# Altium integrated library Analog Devices Data Converters Analog-to-Digital Converters.IntLib: 2400 symbols (part 76 of 338)
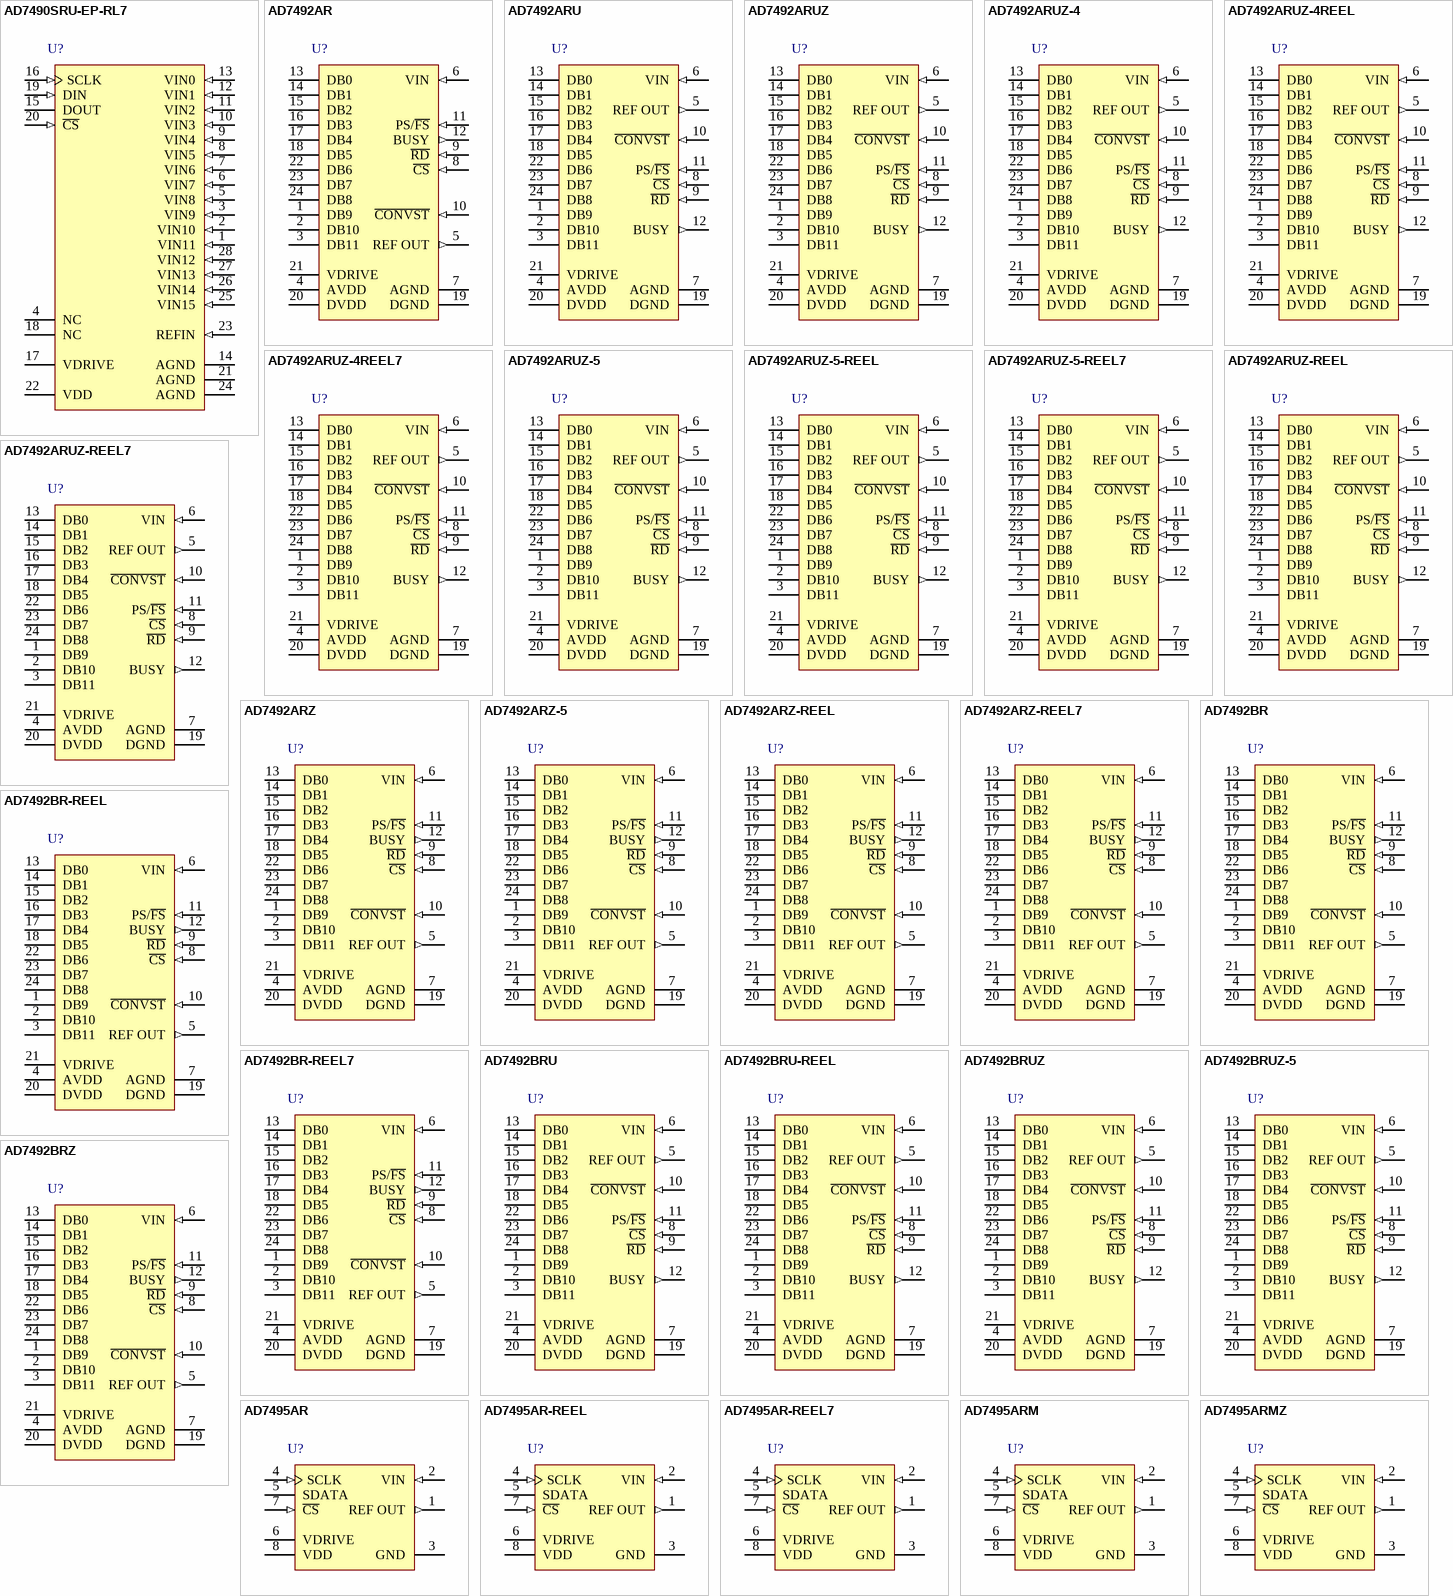
[diagram p198: symbols AD7490SRU-EP-RL7 to AD7495ARMZ]

## AD7492ARUZ-5-REEL
designator U?
Single 12-Bit Analog-to-Digital Converter with Parallel Interface and Internal REF and CLK, 16 mW, 1.25MSPS, -40 to +85 degC, RU-24, Pb-Free, Reel; Part Number: AD7492-5; Manufacturer: Analog Devices; Resolution (Bits): 12; Channels: 1; Throughput Rate (SPS): 1.25M; Interface: Par; DatasheetVersion: Rev.A; PackageVersion: 2002; PackageReference: RU-24; PackageDescription: 24-Lead Thin Shrink Small Outline Package [TSSOP]; RoHS: Y; Packing: Reel; Mounting Technology: Surface Mount; Code_JEDEC: MO-153-AD; ComponentLink1Description: Manufacturer URL; ComponentLink1URL: http://www.analog.com/en/index.html; ComponentLink2Description: Datasheet; ComponentLink2URL: http://www.analog.com/static/imported-files/data_sheets/AD7492.pdf; ComponentLink3Description: Package Specification; ComponentLink3URL: http://www.analog.com/static/imported-files/packages/380523655245964505593671154107510036154RU24.pdf; ComponentLink4Description: Product URL; ComponentLink4URL: http://www.analog.com/en/analog-to-digital-converters/ad-converters/ad7492/products/product.html
footprint RU-24_N (TSOP, 24-Leads, Body 7.8x4.4mm, Pitch 0.65mm, IPC Medium Density)
footprint RU-24_L (TSOP, 24-Leads, Body 7.8x4.4mm, Pitch 0.65mm, IPC High Density)
footprint RU-24_M (TSOP, 24-Leads, Body 7.8x4.4mm, Pitch 0.65mm, IPC Low Density)
pins: 1 DB9 (hiz) "Data Bit 9. Parallel digital outputs that provide the conversion result for the part. These are three-state outputs that are controlled by C\S\ and R\D\. The output high voltage level for these outputs is determined by the (See Datasheet)", 2 DB10 (hiz) "Data Bit 10. Parallel digital outputs that provide the conversion result for the part. These are three-state outputs that are controlled by C\S\ and R\D\. The output high voltage level for these outputs is determined by the (See Datasheet)", 3 DB11 (hiz) "Data Bit 11. Parallel digital outputs that provide the conversion result for the part. These are three-state outputs that are controlled by C\S\ and R\D\. The output high voltage level for these outputs is determined by the (See Datasheet)", 4 AVDD (power) "Analog Supply Voltage, 2.7 V to 5.25 V. This is the only supply voltage for all analog circuitry on the AD7492. The AVDD and DVDD voltages should ideally be at the same potential and must not be more than 0.3 V apart, even (See Datasheet)", 5 REF OUT (out) "Reference Out. The output voltage from this pin is 2.5 V +/- 1%.", 6 VIN (in) "Analog Input. Single-ended analog input channel. The input range is 0 V to REFIN. The analog input presents a high dc input impedance.", 7 AGND (power) "Analog Ground. Ground reference point for all analog circuitry on the AD7492. All analog input signals should be referred to this AGND voltage. The AGND and DGND voltages should ideally be at the same potential and must not (See Datasheet)", 8 ~{CS} (in) "Chip Select. Active low logic input used in conjunction with R\D\ to access the conversion result. The conversion result is placed on the data bus following the falling edge of both C\S\ and R\D\. C\S\ and R\D\ are both (See Datasheet)", 9 ~{RD} (in) "Read Input. Logic input used in conjunction with C\S\ to access the conversion result. The conversion result is placed on the data bus following the falling edge of both C\S\ and R\D\. C\S\ and R\D\ are both connected to the (See Datasheet)", 10 ~{CONVST} (in) "Conversion Start Input. Logic input used to initiate conversion. The input track/hold amplifier goes from track mode to hold mode on the falling edge of C\O\N\V\S\T\ and the conversion process is initiated at this point. The (See Datasheet)", 11 PS/~{FS} (in) "Partial Sleep/Full Sleep Mode. This pin determines the type of sleep mode the part enters if the C\O\N\V\S\T\ pin is kept low for the duration of the conversion and is still low at the end of conversion. In partial sleep (See Datasheet)", 12 BUSY (out) "BUSY Output. Logic output indicating the status of the conversion process. The BUSY signal goes high after the falling edge of C\O\N\V\S\T\ and stays high for the duration of the conversion. Once the conversion is complete (See Datasheet)", 13 DB0 (hiz) "Data Bit 0. Parallel digital outputs that provide the conversion result for the part. These are three-state outputs that are controlled by C\S\ and R\D\. The output high voltage level for these outputs is determined by the (See Datasheet)", 14 DB1 (hiz) "Data Bit 1. Parallel digital outputs that provide the conversion result for the part. These are three-state outputs that are controlled by C\S\ and R\D\. The output high voltage level for these outputs is determined by the (See Datasheet)", 15 DB2 (hiz) "Data Bit 2. Parallel digital outputs that provide the conversion result for the part. These are three-state outputs that are controlled by C\S\ and R\D\. The output high voltage level for these outputs is determined by the (See Datasheet)", 16 DB3 (hiz) "Data Bit 3. Parallel digital outputs that provide the conversion result for the part. These are three-state outputs that are controlled by C\S\ and R\D\. The output high voltage level for these outputs is determined by the (See Datasheet)", 17 DB4 (hiz) "Data Bit 4. Parallel digital outputs that provide the conversion result for the part. These are three-state outputs that are controlled by C\S\ and R\D\. The output high voltage level for these outputs is determined by the (See Datasheet)", 18 DB5 (hiz) "Data Bit 5. Parallel digital outputs that provide the conversion result for the part. These are three-state outputs that are controlled by C\S\ and R\D\. The output high voltage level for these outputs is determined by the (See Datasheet)", 19 DGND (power) "Digital Ground. This is the ground reference point for all digital circuitry on the AD7492. The DGND and AGND voltages should ideally be at the same potential and must not be more than 0.3 V apart, even on a transient basis.", 20 DVDD (power) "Digital Supply Voltage, 2.7 V to 5.25 V. This is the supply voltage for all digital circuitry on the AD7492 apart from the output drivers and input circuitry. The DVDD and AVDD voltages should ideally be at the same (See Datasheet)", 21 VDRIVE (power) "Supply Voltage for the Output Drivers and Digital Input Circuitry, 2.7 V to 5.25 V. This voltage determines the output high voltage for the data output pins and the trigger levels for the digital inputs. It allows the (See Datasheet)", 22 DB6 (hiz) "Data Bit 6. Parallel digital outputs that provide the conversion result for the part. These are three-state outputs that are controlled by C\S\ and R\D\. The output high voltage level for these outputs is determined by the (See Datasheet)", 23 DB7 (hiz) "Data Bit 7. Parallel digital outputs that provide the conversion result for the part. These are three-state outputs that are controlled by C\S\ and R\D\. The output high voltage level for these outputs is determined by the (See Datasheet)", 24 DB8 (hiz) "Data Bit 8. Parallel digital outputs that provide the conversion result for the part. These are three-state outputs that are controlled by C\S\ and R\D\. The output high voltage level for these outputs is determined by the (See Datasheet)"

## AD7492ARUZ-5-REEL7
designator U?
Single 12-Bit Analog-to-Digital Converter with Parallel Interface and Internal REF and CLK, 16 mW, 1.25MSPS, -40 to +85 degC, RU-24, Pb-Free, Reel; Part Number: AD7492-5; Manufacturer: Analog Devices; Resolution (Bits): 12; Channels: 1; Throughput Rate (SPS): 1.25M; Interface: Par; DatasheetVersion: Rev.A; PackageVersion: 2002; PackageReference: RU-24; PackageDescription: 24-Lead Thin Shrink Small Outline Package [TSSOP]; RoHS: Y; Packing: Reel; Mounting Technology: Surface Mount; Code_JEDEC: MO-153-AD; ComponentLink1Description: Manufacturer URL; ComponentLink1URL: http://www.analog.com/en/index.html; ComponentLink2Description: Datasheet; ComponentLink2URL: http://www.analog.com/static/imported-files/data_sheets/AD7492.pdf; ComponentLink3Description: Package Specification; ComponentLink3URL: http://www.analog.com/static/imported-files/packages/380523655245964505593671154107510036154RU24.pdf; ComponentLink4Description: Product URL; ComponentLink4URL: http://www.analog.com/en/analog-to-digital-converters/ad-converters/ad7492/products/product.html
footprint RU-24_N (TSOP, 24-Leads, Body 7.8x4.4mm, Pitch 0.65mm, IPC Medium Density)
footprint RU-24_L (TSOP, 24-Leads, Body 7.8x4.4mm, Pitch 0.65mm, IPC High Density)
footprint RU-24_M (TSOP, 24-Leads, Body 7.8x4.4mm, Pitch 0.65mm, IPC Low Density)
pins: 1 DB9 (hiz) "Data Bit 9. Parallel digital outputs that provide the conversion result for the part. These are three-state outputs that are controlled by C\S\ and R\D\. The output high voltage level for these outputs is determined by the (See Datasheet)", 2 DB10 (hiz) "Data Bit 10. Parallel digital outputs that provide the conversion result for the part. These are three-state outputs that are controlled by C\S\ and R\D\. The output high voltage level for these outputs is determined by the (See Datasheet)", 3 DB11 (hiz) "Data Bit 11. Parallel digital outputs that provide the conversion result for the part. These are three-state outputs that are controlled by C\S\ and R\D\. The output high voltage level for these outputs is determined by the (See Datasheet)", 4 AVDD (power) "Analog Supply Voltage, 2.7 V to 5.25 V. This is the only supply voltage for all analog circuitry on the AD7492. The AVDD and DVDD voltages should ideally be at the same potential and must not be more than 0.3 V apart, even (See Datasheet)", 5 REF OUT (out) "Reference Out. The output voltage from this pin is 2.5 V +/- 1%.", 6 VIN (in) "Analog Input. Single-ended analog input channel. The input range is 0 V to REFIN. The analog input presents a high dc input impedance.", 7 AGND (power) "Analog Ground. Ground reference point for all analog circuitry on the AD7492. All analog input signals should be referred to this AGND voltage. The AGND and DGND voltages should ideally be at the same potential and must not (See Datasheet)", 8 ~{CS} (in) "Chip Select. Active low logic input used in conjunction with R\D\ to access the conversion result. The conversion result is placed on the data bus following the falling edge of both C\S\ and R\D\. C\S\ and R\D\ are both (See Datasheet)", 9 ~{RD} (in) "Read Input. Logic input used in conjunction with C\S\ to access the conversion result. The conversion result is placed on the data bus following the falling edge of both C\S\ and R\D\. C\S\ and R\D\ are both connected to the (See Datasheet)", 10 ~{CONVST} (in) "Conversion Start Input. Logic input used to initiate conversion. The input track/hold amplifier goes from track mode to hold mode on the falling edge of C\O\N\V\S\T\ and the conversion process is initiated at this point. The (See Datasheet)", 11 PS/~{FS} (in) "Partial Sleep/Full Sleep Mode. This pin determines the type of sleep mode the part enters if the C\O\N\V\S\T\ pin is kept low for the duration of the conversion and is still low at the end of conversion. In partial sleep (See Datasheet)", 12 BUSY (out) "BUSY Output. Logic output indicating the status of the conversion process. The BUSY signal goes high after the falling edge of C\O\N\V\S\T\ and stays high for the duration of the conversion. Once the conversion is complete (See Datasheet)", 13 DB0 (hiz) "Data Bit 0. Parallel digital outputs that provide the conversion result for the part. These are three-state outputs that are controlled by C\S\ and R\D\. The output high voltage level for these outputs is determined by the (See Datasheet)", 14 DB1 (hiz) "Data Bit 1. Parallel digital outputs that provide the conversion result for the part. These are three-state outputs that are controlled by C\S\ and R\D\. The output high voltage level for these outputs is determined by the (See Datasheet)", 15 DB2 (hiz) "Data Bit 2. Parallel digital outputs that provide the conversion result for the part. These are three-state outputs that are controlled by C\S\ and R\D\. The output high voltage level for these outputs is determined by the (See Datasheet)", 16 DB3 (hiz) "Data Bit 3. Parallel digital outputs that provide the conversion result for the part. These are three-state outputs that are controlled by C\S\ and R\D\. The output high voltage level for these outputs is determined by the (See Datasheet)", 17 DB4 (hiz) "Data Bit 4. Parallel digital outputs that provide the conversion result for the part. These are three-state outputs that are controlled by C\S\ and R\D\. The output high voltage level for these outputs is determined by the (See Datasheet)", 18 DB5 (hiz) "Data Bit 5. Parallel digital outputs that provide the conversion result for the part. These are three-state outputs that are controlled by C\S\ and R\D\. The output high voltage level for these outputs is determined by the (See Datasheet)", 19 DGND (power) "Digital Ground. This is the ground reference point for all digital circuitry on the AD7492. The DGND and AGND voltages should ideally be at the same potential and must not be more than 0.3 V apart, even on a transient basis.", 20 DVDD (power) "Digital Supply Voltage, 2.7 V to 5.25 V. This is the supply voltage for all digital circuitry on the AD7492 apart from the output drivers and input circuitry. The DVDD and AVDD voltages should ideally be at the same (See Datasheet)", 21 VDRIVE (power) "Supply Voltage for the Output Drivers and Digital Input Circuitry, 2.7 V to 5.25 V. This voltage determines the output high voltage for the data output pins and the trigger levels for the digital inputs. It allows the (See Datasheet)", 22 DB6 (hiz) "Data Bit 6. Parallel digital outputs that provide the conversion result for the part. These are three-state outputs that are controlled by C\S\ and R\D\. The output high voltage level for these outputs is determined by the (See Datasheet)", 23 DB7 (hiz) "Data Bit 7. Parallel digital outputs that provide the conversion result for the part. These are three-state outputs that are controlled by C\S\ and R\D\. The output high voltage level for these outputs is determined by the (See Datasheet)", 24 DB8 (hiz) "Data Bit 8. Parallel digital outputs that provide the conversion result for the part. These are three-state outputs that are controlled by C\S\ and R\D\. The output high voltage level for these outputs is determined by the (See Datasheet)"

## AD7492ARUZ-REEL
designator U?
Single 12-Bit Analog-to-Digital Converter with Parallel Interface and Internal REF and CLK, 16 mW, 1MSPS, -40 to +85 degC, RU-24, Pb-Free, Reel; Part Number: AD7492; Manufacturer: Analog Devices; Resolution (Bits): 12; Channels: 1; Throughput Rate (SPS): 1M; Interface: Par; DatasheetVersion: Rev.A; PackageVersion: 2002; PackageReference: RU-24; PackageDescription: 24-Lead Thin Shrink Small Outline Package [TSSOP]; RoHS: Y; Packing: Reel; Mounting Technology: Surface Mount; Code_JEDEC: MO-153-AD; ComponentLink1Description: Manufacturer URL; ComponentLink1URL: http://www.analog.com/en/index.html; ComponentLink2Description: Datasheet; ComponentLink2URL: http://www.analog.com/static/imported-files/data_sheets/AD7492.pdf; ComponentLink3Description: Package Specification; ComponentLink3URL: http://www.analog.com/static/imported-files/packages/380523655245964505593671154107510036154RU24.pdf; ComponentLink4Description: Product URL; ComponentLink4URL: http://www.analog.com/en/analog-to-digital-converters/ad-converters/ad7492/products/product.html
footprint RU-24_N (TSOP, 24-Leads, Body 7.8x4.4mm, Pitch 0.65mm, IPC Medium Density)
footprint RU-24_L (TSOP, 24-Leads, Body 7.8x4.4mm, Pitch 0.65mm, IPC High Density)
footprint RU-24_M (TSOP, 24-Leads, Body 7.8x4.4mm, Pitch 0.65mm, IPC Low Density)
pins: 1 DB9 (hiz) "Data Bit 9. Parallel digital outputs that provide the conversion result for the part. These are three-state outputs that are controlled by C\S\ and R\D\. The output high voltage level for these outputs is determined by the (See Datasheet)", 2 DB10 (hiz) "Data Bit 10. Parallel digital outputs that provide the conversion result for the part. These are three-state outputs that are controlled by C\S\ and R\D\. The output high voltage level for these outputs is determined by the (See Datasheet)", 3 DB11 (hiz) "Data Bit 11. Parallel digital outputs that provide the conversion result for the part. These are three-state outputs that are controlled by C\S\ and R\D\. The output high voltage level for these outputs is determined by the (See Datasheet)", 4 AVDD (power) "Analog Supply Voltage, 2.7 V to 5.25 V. This is the only supply voltage for all analog circuitry on the AD7492. The AVDD and DVDD voltages should ideally be at the same potential and must not be more than 0.3 V apart, even (See Datasheet)", 5 REF OUT (out) "Reference Out. The output voltage from this pin is 2.5 V +/- 1%.", 6 VIN (in) "Analog Input. Single-ended analog input channel. The input range is 0 V to REFIN. The analog input presents a high dc input impedance.", 7 AGND (power) "Analog Ground. Ground reference point for all analog circuitry on the AD7492. All analog input signals should be referred to this AGND voltage. The AGND and DGND voltages should ideally be at the same potential and must not (See Datasheet)", 8 ~{CS} (in) "Chip Select. Active low logic input used in conjunction with R\D\ to access the conversion result. The conversion result is placed on the data bus following the falling edge of both C\S\ and R\D\. C\S\ and R\D\ are both (See Datasheet)", 9 ~{RD} (in) "Read Input. Logic input used in conjunction with C\S\ to access the conversion result. The conversion result is placed on the data bus following the falling edge of both C\S\ and R\D\. C\S\ and R\D\ are both connected to the (See Datasheet)", 10 ~{CONVST} (in) "Conversion Start Input. Logic input used to initiate conversion. The input track/hold amplifier goes from track mode to hold mode on the falling edge of C\O\N\V\S\T\ and the conversion process is initiated at this point. The (See Datasheet)", 11 PS/~{FS} (in) "Partial Sleep/Full Sleep Mode. This pin determines the type of sleep mode the part enters if the C\O\N\V\S\T\ pin is kept low for the duration of the conversion and is still low at the end of conversion. In partial sleep (See Datasheet)", 12 BUSY (out) "BUSY Output. Logic output indicating the status of the conversion process. The BUSY signal goes high after the falling edge of C\O\N\V\S\T\ and stays high for the duration of the conversion. Once the conversion is complete (See Datasheet)", 13 DB0 (hiz) "Data Bit 0. Parallel digital outputs that provide the conversion result for the part. These are three-state outputs that are controlled by C\S\ and R\D\. The output high voltage level for these outputs is determined by the (See Datasheet)", 14 DB1 (hiz) "Data Bit 1. Parallel digital outputs that provide the conversion result for the part. These are three-state outputs that are controlled by C\S\ and R\D\. The output high voltage level for these outputs is determined by the (See Datasheet)", 15 DB2 (hiz) "Data Bit 2. Parallel digital outputs that provide the conversion result for the part. These are three-state outputs that are controlled by C\S\ and R\D\. The output high voltage level for these outputs is determined by the (See Datasheet)", 16 DB3 (hiz) "Data Bit 3. Parallel digital outputs that provide the conversion result for the part. These are three-state outputs that are controlled by C\S\ and R\D\. The output high voltage level for these outputs is determined by the (See Datasheet)", 17 DB4 (hiz) "Data Bit 4. Parallel digital outputs that provide the conversion result for the part. These are three-state outputs that are controlled by C\S\ and R\D\. The output high voltage level for these outputs is determined by the (See Datasheet)", 18 DB5 (hiz) "Data Bit 5. Parallel digital outputs that provide the conversion result for the part. These are three-state outputs that are controlled by C\S\ and R\D\. The output high voltage level for these outputs is determined by the (See Datasheet)", 19 DGND (power) "Digital Ground. This is the ground reference point for all digital circuitry on the AD7492. The DGND and AGND voltages should ideally be at the same potential and must not be more than 0.3 V apart, even on a transient basis.", 20 DVDD (power) "Digital Supply Voltage, 2.7 V to 5.25 V. This is the supply voltage for all digital circuitry on the AD7492 apart from the output drivers and input circuitry. The DVDD and AVDD voltages should ideally be at the same (See Datasheet)", 21 VDRIVE (power) "Supply Voltage for the Output Drivers and Digital Input Circuitry, 2.7 V to 5.25 V. This voltage determines the output high voltage for the data output pins and the trigger levels for the digital inputs. It allows the (See Datasheet)", 22 DB6 (hiz) "Data Bit 6. Parallel digital outputs that provide the conversion result for the part. These are three-state outputs that are controlled by C\S\ and R\D\. The output high voltage level for these outputs is determined by the (See Datasheet)", 23 DB7 (hiz) "Data Bit 7. Parallel digital outputs that provide the conversion result for the part. These are three-state outputs that are controlled by C\S\ and R\D\. The output high voltage level for these outputs is determined by the (See Datasheet)", 24 DB8 (hiz) "Data Bit 8. Parallel digital outputs that provide the conversion result for the part. These are three-state outputs that are controlled by C\S\ and R\D\. The output high voltage level for these outputs is determined by the (See Datasheet)"

## AD7492ARUZ-REEL7
designator U?
Single 12-Bit Analog-to-Digital Converter with Parallel Interface and Internal REF and CLK, 16 mW, 1MSPS, -40 to +85 degC, RU-24, Pb-Free, Reel; Part Number: AD7492; Manufacturer: Analog Devices; Resolution (Bits): 12; Channels: 1; Throughput Rate (SPS): 1M; Interface: Par; DatasheetVersion: Rev.A; PackageVersion: 2002; PackageReference: RU-24; PackageDescription: 24-Lead Thin Shrink Small Outline Package [TSSOP]; RoHS: Y; Packing: Reel; Mounting Technology: Surface Mount; Code_JEDEC: MO-153-AD; ComponentLink1Description: Manufacturer URL; ComponentLink1URL: http://www.analog.com/en/index.html; ComponentLink2Description: Datasheet; ComponentLink2URL: http://www.analog.com/static/imported-files/data_sheets/AD7492.pdf; ComponentLink3Description: Package Specification; ComponentLink3URL: http://www.analog.com/static/imported-files/packages/380523655245964505593671154107510036154RU24.pdf; ComponentLink4Description: Product URL; ComponentLink4URL: http://www.analog.com/en/analog-to-digital-converters/ad-converters/ad7492/products/product.html
footprint RU-24_N (TSOP, 24-Leads, Body 7.8x4.4mm, Pitch 0.65mm, IPC Medium Density)
footprint RU-24_L (TSOP, 24-Leads, Body 7.8x4.4mm, Pitch 0.65mm, IPC High Density)
footprint RU-24_M (TSOP, 24-Leads, Body 7.8x4.4mm, Pitch 0.65mm, IPC Low Density)
pins: 1 DB9 (hiz) "Data Bit 9. Parallel digital outputs that provide the conversion result for the part. These are three-state outputs that are controlled by C\S\ and R\D\. The output high voltage level for these outputs is determined by the (See Datasheet)", 2 DB10 (hiz) "Data Bit 10. Parallel digital outputs that provide the conversion result for the part. These are three-state outputs that are controlled by C\S\ and R\D\. The output high voltage level for these outputs is determined by the (See Datasheet)", 3 DB11 (hiz) "Data Bit 11. Parallel digital outputs that provide the conversion result for the part. These are three-state outputs that are controlled by C\S\ and R\D\. The output high voltage level for these outputs is determined by the (See Datasheet)", 4 AVDD (power) "Analog Supply Voltage, 2.7 V to 5.25 V. This is the only supply voltage for all analog circuitry on the AD7492. The AVDD and DVDD voltages should ideally be at the same potential and must not be more than 0.3 V apart, even (See Datasheet)", 5 REF OUT (out) "Reference Out. The output voltage from this pin is 2.5 V +/- 1%.", 6 VIN (in) "Analog Input. Single-ended analog input channel. The input range is 0 V to REFIN. The analog input presents a high dc input impedance.", 7 AGND (power) "Analog Ground. Ground reference point for all analog circuitry on the AD7492. All analog input signals should be referred to this AGND voltage. The AGND and DGND voltages should ideally be at the same potential and must not (See Datasheet)", 8 ~{CS} (in) "Chip Select. Active low logic input used in conjunction with R\D\ to access the conversion result. The conversion result is placed on the data bus following the falling edge of both C\S\ and R\D\. C\S\ and R\D\ are both (See Datasheet)", 9 ~{RD} (in) "Read Input. Logic input used in conjunction with C\S\ to access the conversion result. The conversion result is placed on the data bus following the falling edge of both C\S\ and R\D\. C\S\ and R\D\ are both connected to the (See Datasheet)", 10 ~{CONVST} (in) "Conversion Start Input. Logic input used to initiate conversion. The input track/hold amplifier goes from track mode to hold mode on the falling edge of C\O\N\V\S\T\ and the conversion process is initiated at this point. The (See Datasheet)", 11 PS/~{FS} (in) "Partial Sleep/Full Sleep Mode. This pin determines the type of sleep mode the part enters if the C\O\N\V\S\T\ pin is kept low for the duration of the conversion and is still low at the end of conversion. In partial sleep (See Datasheet)", 12 BUSY (out) "BUSY Output. Logic output indicating the status of the conversion process. The BUSY signal goes high after the falling edge of C\O\N\V\S\T\ and stays high for the duration of the conversion. Once the conversion is complete (See Datasheet)", 13 DB0 (hiz) "Data Bit 0. Parallel digital outputs that provide the conversion result for the part. These are three-state outputs that are controlled by C\S\ and R\D\. The output high voltage level for these outputs is determined by the (See Datasheet)", 14 DB1 (hiz) "Data Bit 1. Parallel digital outputs that provide the conversion result for the part. These are three-state outputs that are controlled by C\S\ and R\D\. The output high voltage level for these outputs is determined by the (See Datasheet)", 15 DB2 (hiz) "Data Bit 2. Parallel digital outputs that provide the conversion result for the part. These are three-state outputs that are controlled by C\S\ and R\D\. The output high voltage level for these outputs is determined by the (See Datasheet)", 16 DB3 (hiz) "Data Bit 3. Parallel digital outputs that provide the conversion result for the part. These are three-state outputs that are controlled by C\S\ and R\D\. The output high voltage level for these outputs is determined by the (See Datasheet)", 17 DB4 (hiz) "Data Bit 4. Parallel digital outputs that provide the conversion result for the part. These are three-state outputs that are controlled by C\S\ and R\D\. The output high voltage level for these outputs is determined by the (See Datasheet)", 18 DB5 (hiz) "Data Bit 5. Parallel digital outputs that provide the conversion result for the part. These are three-state outputs that are controlled by C\S\ and R\D\. The output high voltage level for these outputs is determined by the (See Datasheet)", 19 DGND (power) "Digital Ground. This is the ground reference point for all digital circuitry on the AD7492. The DGND and AGND voltages should ideally be at the same potential and must not be more than 0.3 V apart, even on a transient basis.", 20 DVDD (power) "Digital Supply Voltage, 2.7 V to 5.25 V. This is the supply voltage for all digital circuitry on the AD7492 apart from the output drivers and input circuitry. The DVDD and AVDD voltages should ideally be at the same (See Datasheet)", 21 VDRIVE (power) "Supply Voltage for the Output Drivers and Digital Input Circuitry, 2.7 V to 5.25 V. This voltage determines the output high voltage for the data output pins and the trigger levels for the digital inputs. It allows the (See Datasheet)", 22 DB6 (hiz) "Data Bit 6. Parallel digital outputs that provide the conversion result for the part. These are three-state outputs that are controlled by C\S\ and R\D\. The output high voltage level for these outputs is determined by the (See Datasheet)", 23 DB7 (hiz) "Data Bit 7. Parallel digital outputs that provide the conversion result for the part. These are three-state outputs that are controlled by C\S\ and R\D\. The output high voltage level for these outputs is determined by the (See Datasheet)", 24 DB8 (hiz) "Data Bit 8. Parallel digital outputs that provide the conversion result for the part. These are three-state outputs that are controlled by C\S\ and R\D\. The output high voltage level for these outputs is determined by the (See Datasheet)"

## AD7492ARZ
designator U?
Single 12-Bit Analog-to-Digital Converter with Parallel Interface and Internal REF and CLK, 16 mW, 1MSPS, 0 to +70 degC, RW-24, Pb-Free, Tube; Part Number: AD7492; Manufacturer: Analog Devices; Resolution (Bits): 12; Channels: 1; Throughput Rate (SPS): 1M; Interface: Par; DatasheetVersion: Rev.A; PackageVersion: 060706-A; PackageReference: RW-24; PackageDescription: 24-Lead Standard Small Outline Package [SOIC_W]; RoHS: Y; Packing: Tube; Mounting Technology: Surface Mount; Code_JEDEC: MS-013-AD; ComponentLink1Description: Manufacturer URL; ComponentLink1URL: http://www.analog.com/en/index.html; ComponentLink2Description: Datasheet; ComponentLink2URL: http://www.analog.com/static/imported-files/data_sheets/AD7492.pdf; ComponentLink3Description: Package Specification; ComponentLink3URL: http://www.analog.com/static/imported-files/packages/33665150946139RW_24.pdf; ComponentLink4Description: Product URL; ComponentLink4URL: http://www.analog.com/en/analog-to-digital-converters/ad-converters/ad7492/products/product.html
footprint RW-24_N (SOIC, 24-Leads, Body 15.4x7.5mm, Pitch 1.27mm, IPC Medium Density)
footprint RW-24_L (SOIC, 24-Leads, Body 15.4x7.5mm, Pitch 1.27mm, IPC High Density)
footprint RW-24_M (SOIC, 24-Leads, Body 15.4x7.5mm, Pitch 1.27mm, IPC Low Density)
pins: 1 DB9 (hiz) "Data Bit 9. Parallel digital outputs that provide the conversion result for the part. These are three-state outputs that are controlled by C\S\ and R\D\. The output high voltage level for these outputs is determined by the (See Datasheet)", 2 DB10 (hiz) "Data Bit 10. Parallel digital outputs that provide the conversion result for the part. These are three-state outputs that are controlled by C\S\ and R\D\. The output high voltage level for these outputs is determined by the (See Datasheet)", 3 DB11 (hiz) "Data Bit 11. Parallel digital outputs that provide the conversion result for the part. These are three-state outputs that are controlled by C\S\ and R\D\. The output high voltage level for these outputs is determined by the (See Datasheet)", 4 AVDD (power) "Analog Supply Voltage, 2.7 V to 5.25 V. This is the only supply voltage for all analog circuitry on the AD7492. The AVDD and DVDD voltages should ideally be at the same potential and must not be more than 0.3 V apart, even (See Datasheet)", 5 REF OUT (out) "Reference Out. The output voltage from this pin is 2.5 V +/- 1%.", 6 VIN (in) "Analog Input. Single-ended analog input channel. The input range is 0 V to REFIN. The analog input presents a high dc input impedance.", 7 AGND (power) "Analog Ground. Ground reference point for all analog circuitry on the AD7492. All analog input signals should be referred to this AGND voltage. The AGND and DGND voltages should ideally be at the same potential and must not (See Datasheet)", 8 ~{CS} (in) "Chip Select. Active low logic input used in conjunction with R\D\ to access the conversion result. The conversion result is placed on the data bus following the falling edge of both C\S\ and R\D\. C\S\ and R\D\ are both (See Datasheet)", 9 ~{RD} (in) "Read Input. Logic input used in conjunction with C\S\ to access the conversion result. The conversion result is placed on the data bus following the falling edge of both C\S\ and R\D\. C\S\ and R\D\ are both connected to the (See Datasheet)", 10 ~{CONVST} (in) "Conversion Start Input. Logic input used to initiate conversion. The input track/hold amplifier goes from track mode to hold mode on the falling edge of C\O\N\V\S\T\ and the conversion process is initiated at this point. The (See Datasheet)", 11 PS/~{FS} (in) "Partial Sleep/Full Sleep Mode. This pin determines the type of sleep mode the part enters if the C\O\N\V\S\T\ pin is kept low for the duration of the conversion and is still low at the end of conversion. In partial sleep (See Datasheet)", 12 BUSY (out) "BUSY Output. Logic output indicating the status of the conversion process. The BUSY signal goes high after the falling edge of C\O\N\V\S\T\ and stays high for the duration of the conversion. Once the conversion is complete (See Datasheet)", 13 DB0 (hiz) "Data Bit 0. Parallel digital outputs that provide the conversion result for the part. These are three-state outputs that are controlled by C\S\ and R\D\. The output high voltage level for these outputs is determined by the (See Datasheet)", 14 DB1 (hiz) "Data Bit 1. Parallel digital outputs that provide the conversion result for the part. These are three-state outputs that are controlled by C\S\ and R\D\. The output high voltage level for these outputs is determined by the (See Datasheet)", 15 DB2 (hiz) "Data Bit 2. Parallel digital outputs that provide the conversion result for the part. These are three-state outputs that are controlled by C\S\ and R\D\. The output high voltage level for these outputs is determined by the (See Datasheet)", 16 DB3 (hiz) "Data Bit 3. Parallel digital outputs that provide the conversion result for the part. These are three-state outputs that are controlled by C\S\ and R\D\. The output high voltage level for these outputs is determined by the (See Datasheet)", 17 DB4 (hiz) "Data Bit 4. Parallel digital outputs that provide the conversion result for the part. These are three-state outputs that are controlled by C\S\ and R\D\. The output high voltage level for these outputs is determined by the (See Datasheet)", 18 DB5 (hiz) "Data Bit 5. Parallel digital outputs that provide the conversion result for the part. These are three-state outputs that are controlled by C\S\ and R\D\. The output high voltage level for these outputs is determined by the (See Datasheet)", 19 DGND (power) "Digital Ground. This is the ground reference point for all digital circuitry on the AD7492. The DGND and AGND voltages should ideally be at the same potential and must not be more than 0.3 V apart, even on a transient basis.", 20 DVDD (power) "Digital Supply Voltage, 2.7 V to 5.25 V. This is the supply voltage for all digital circuitry on the AD7492 apart from the output drivers and input circuitry. The DVDD and AVDD voltages should ideally be at the same (See Datasheet)", 21 VDRIVE (power) "Supply Voltage for the Output Drivers and Digital Input Circuitry, 2.7 V to 5.25 V. This voltage determines the output high voltage for the data output pins and the trigger levels for the digital inputs. It allows the AVDD (See Datasheet)", 22 DB6 (hiz) "Data Bit 6. Parallel digital outputs that provide the conversion result for the part. These are three-state outputs that are controlled by C\S\ and R\D\. The output high voltage level for these outputs is determined by the (See Datasheet)", 23 DB7 (hiz) "Data Bit 7. Parallel digital outputs that provide the conversion result for the part. These are three-state outputs that are controlled by C\S\ and R\D\. The output high voltage level for these outputs is determined by the (See Datasheet)", 24 DB8 (hiz) "Data Bit 8. Parallel digital outputs that provide the conversion result for the part. These are three-state outputs that are controlled by C\S\ and R\D\. The output high voltage level for these outputs is determined by the (See Datasheet)"

## AD7492ARZ-5
designator U?
Single 12-Bit Analog-to-Digital Converter with Parallel Interface and Internal REF and CLK, 16 mW, 1.25MSPS, -40 to +85 degC, RW-24, Pb-Free, Tube; Part Number: AD7492-5; Manufacturer: Analog Devices; Resolution (Bits): 12; Channels: 1; Throughput Rate (SPS): 1.25M; Interface: Par; DatasheetVersion: Rev.A; PackageVersion: 060706-A; PackageReference: RW-24; PackageDescription: 24-Lead Standard Small Outline Package [SOIC_W]; RoHS: Y; Packing: Tube; Mounting Technology: Surface Mount; Code_JEDEC: MS-013-AD; ComponentLink1Description: Manufacturer URL; ComponentLink1URL: http://www.analog.com/en/index.html; ComponentLink2Description: Datasheet; ComponentLink2URL: http://www.analog.com/static/imported-files/data_sheets/AD7492.pdf; ComponentLink3Description: Package Specification; ComponentLink3URL: http://www.analog.com/static/imported-files/packages/33665150946139RW_24.pdf; ComponentLink4Description: Product URL; ComponentLink4URL: http://www.analog.com/en/analog-to-digital-converters/ad-converters/ad7492/products/product.html
footprint RW-24_N (SOIC, 24-Leads, Body 15.4x7.5mm, Pitch 1.27mm, IPC Medium Density)
footprint RW-24_L (SOIC, 24-Leads, Body 15.4x7.5mm, Pitch 1.27mm, IPC High Density)
footprint RW-24_M (SOIC, 24-Leads, Body 15.4x7.5mm, Pitch 1.27mm, IPC Low Density)
pins: 1 DB9 (hiz) "Data Bit 9. Parallel digital outputs that provide the conversion result for the part. These are three-state outputs that are controlled by C\S\ and R\D\. The output high voltage level for these outputs is determined by the (See Datasheet)", 2 DB10 (hiz) "Data Bit 10. Parallel digital outputs that provide the conversion result for the part. These are three-state outputs that are controlled by C\S\ and R\D\. The output high voltage level for these outputs is determined by the (See Datasheet)", 3 DB11 (hiz) "Data Bit 11. Parallel digital outputs that provide the conversion result for the part. These are three-state outputs that are controlled by C\S\ and R\D\. The output high voltage level for these outputs is determined by the (See Datasheet)", 4 AVDD (power) "Analog Supply Voltage, 2.7 V to 5.25 V. This is the only supply voltage for all analog circuitry on the AD7492. The AVDD and DVDD voltages should ideally be at the same potential and must not be more than 0.3 V apart, even (See Datasheet)", 5 REF OUT (out) "Reference Out. The output voltage from this pin is 2.5 V +/- 1%.", 6 VIN (in) "Analog Input. Single-ended analog input channel. The input range is 0 V to REFIN. The analog input presents a high dc input impedance.", 7 AGND (power) "Analog Ground. Ground reference point for all analog circuitry on the AD7492. All analog input signals should be referred to this AGND voltage. The AGND and DGND voltages should ideally be at the same potential and must not (See Datasheet)", 8 ~{CS} (in) "Chip Select. Active low logic input used in conjunction with R\D\ to access the conversion result. The conversion result is placed on the data bus following the falling edge of both C\S\ and R\D\. C\S\ and R\D\ are both (See Datasheet)", 9 ~{RD} (in) "Read Input. Logic input used in conjunction with C\S\ to access the conversion result. The conversion result is placed on the data bus following the falling edge of both C\S\ and R\D\. C\S\ and R\D\ are both connected to the (See Datasheet)", 10 ~{CONVST} (in) "Conversion Start Input. Logic input used to initiate conversion. The input track/hold amplifier goes from track mode to hold mode on the falling edge of C\O\N\V\S\T\ and the conversion process is initiated at this point. The (See Datasheet)", 11 PS/~{FS} (in) "Partial Sleep/Full Sleep Mode. This pin determines the type of sleep mode the part enters if the C\O\N\V\S\T\ pin is kept low for the duration of the conversion and is still low at the end of conversion. In partial sleep (See Datasheet)", 12 BUSY (out) "BUSY Output. Logic output indicating the status of the conversion process. The BUSY signal goes high after the falling edge of C\O\N\V\S\T\ and stays high for the duration of the conversion. Once the conversion is complete (See Datasheet)", 13 DB0 (hiz) "Data Bit 0. Parallel digital outputs that provide the conversion result for the part. These are three-state outputs that are controlled by C\S\ and R\D\. The output high voltage level for these outputs is determined by the (See Datasheet)", 14 DB1 (hiz) "Data Bit 1. Parallel digital outputs that provide the conversion result for the part. These are three-state outputs that are controlled by C\S\ and R\D\. The output high voltage level for these outputs is determined by the (See Datasheet)", 15 DB2 (hiz) "Data Bit 2. Parallel digital outputs that provide the conversion result for the part. These are three-state outputs that are controlled by C\S\ and R\D\. The output high voltage level for these outputs is determined by the (See Datasheet)", 16 DB3 (hiz) "Data Bit 3. Parallel digital outputs that provide the conversion result for the part. These are three-state outputs that are controlled by C\S\ and R\D\. The output high voltage level for these outputs is determined by the (See Datasheet)", 17 DB4 (hiz) "Data Bit 4. Parallel digital outputs that provide the conversion result for the part. These are three-state outputs that are controlled by C\S\ and R\D\. The output high voltage level for these outputs is determined by the (See Datasheet)", 18 DB5 (hiz) "Data Bit 5. Parallel digital outputs that provide the conversion result for the part. These are three-state outputs that are controlled by C\S\ and R\D\. The output high voltage level for these outputs is determined by the (See Datasheet)", 19 DGND (power) "Digital Ground. This is the ground reference point for all digital circuitry on the AD7492. The DGND and AGND voltages should ideally be at the same potential and must not be more than 0.3 V apart, even on a transient basis.", 20 DVDD (power) "Digital Supply Voltage, 2.7 V to 5.25 V. This is the supply voltage for all digital circuitry on the AD7492 apart from the output drivers and input circuitry. The DVDD and AVDD voltages should ideally be at the same (See Datasheet)", 21 VDRIVE (power) "Supply Voltage for the Output Drivers and Digital Input Circuitry, 2.7 V to 5.25 V. This voltage determines the output high voltage for the data output pins and the trigger levels for the digital inputs. It allows the AVDD (See Datasheet)", 22 DB6 (hiz) "Data Bit 6. Parallel digital outputs that provide the conversion result for the part. These are three-state outputs that are controlled by C\S\ and R\D\. The output high voltage level for these outputs is determined by the (See Datasheet)", 23 DB7 (hiz) "Data Bit 7. Parallel digital outputs that provide the conversion result for the part. These are three-state outputs that are controlled by C\S\ and R\D\. The output high voltage level for these outputs is determined by the (See Datasheet)", 24 DB8 (hiz) "Data Bit 8. Parallel digital outputs that provide the conversion result for the part. These are three-state outputs that are controlled by C\S\ and R\D\. The output high voltage level for these outputs is determined by the (See Datasheet)"